# Altium schematic symbol library Shunt R.SchLib: 1 symbol
Pins are listed as number, name and electrical type; pins without a type are passive.

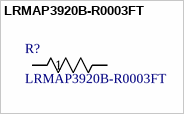
[diagram p0: symbol LRMAP3920B-R0003FT]

## LRMAP3920B-R0003FT
designator R?
No Description Available; Vendor: Welwyn; Built_By: EMA_Anthony; SourceLibrary: Welwyn_2019-11-05; Copyright: Copyright (C) 2018 Accelerated Designs. All rights reserved; Manufacturer_Part_Number: LRMAP3920B-R0003FT; RefDes: RefDes; Type: DEV
footprint RES_LRMAP3920B-R0003FT_WEL
pins: 1, 2